# EAGLE library part 52207-1485 (library molex)
SOCKET FPC, SMT, 1MM, 14 WAY
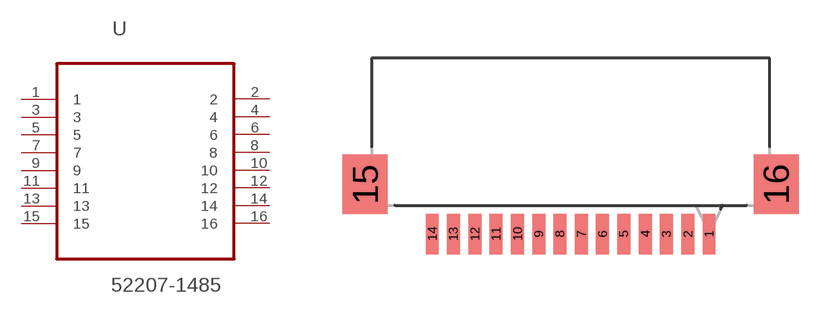
[diagram p3: symbol with the pads of MOLEX_52207-1485; footprint MOLEX_52207-1485]

Designator prefix U

## 52207-1485 (MPN: 52207-1485; OC_FARNELL: 1079940; OC_NEWARK: 07P8554; PACKAGE: SOCKET FPC, SMT, 1MM, 14 WAY; SUPPLIER: Molex)  [MOLEX_52207-1485]
1  1  pas
2  2  pas
3  3  pas
4  4  pas
5  5  pas
6  6  pas
7  7  pas
8  8  pas
9  9  pas
10  10  pas
11  11  pas
12  12  pas
13  13  pas
14  14  pas
15  15  pas
16  16  pas

## Footprint MOLEX_52207-1485 (pad centres in mm)
smd 0.61 x 1.905: 1 6.502,4.801; 2 5.512,4.801; 3 4.496,4.801; 4 3.505,4.801; 5 2.489,4.801; 6 1.499,4.801; 7 0.508,4.801; 8 -0.508,4.801; 9 -1.499,4.801; 10 -2.489,4.801; 11 -3.505,4.801; 12 -4.496,4.801; 13 -5.512,4.801; 14 -6.502,4.801
smd 2.108 x 2.794: 15 -9.652,7.137; 16 9.652,7.137